# Altium footprint library Analog.PcbLib: 2 footprints
Each footprint in its own frame and in the unit in brackets; x right, y up, seen from the top. Pads: shape width x height; smd on the part's side, far side on the other; paste and mask are expansions set on the pad; w line width, h text height; cw(c..) or ccw(c..) is an arc to the next point about the centre after c.
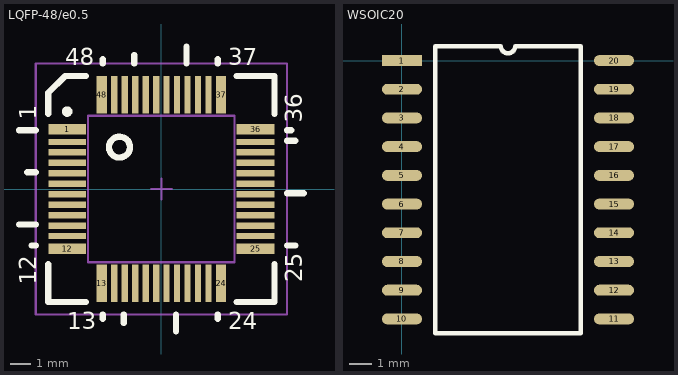
[diagram p0: the footprints below, top view; thin cyan lines are the x and y axes]

## LQFP-48/e0.5 [mm] "LQFP-48; JEDEC MS-026BBC; Body 7.00x7.00x1.60mm; Pitch 0.5mm;"
height 1.6
pads (48):
  rect 1.8x0.5 smd mask+0.1: 1(-4.5,2.85) 12(-4.5,-2.85) 25(4.5,-2.85) 36(4.5,2.85)
  rect 1.8x0.3 smd mask+0.1: 2(-4.5,2.25) 3(-4.5,1.75) 4(-4.5,1.25) 5(-4.5,0.75) 6(-4.5,0.25) 7(-4.5,-0.25) 8(-4.5,-0.75) 9(-4.5,-1.25) 10(-4.5,-1.75) 11(-4.5,-2.25) 26(4.5,-2.25) 27(4.5,-1.75) 28(4.5,-1.25) 29(4.5,-0.75) 30(4.5,-0.25) 31(4.5,0.25) 32(4.5,0.75) 33(4.5,1.25) 34(4.5,1.75) 35(4.5,2.25)
  rect 0.5x1.8 smd mask+0.1: 13(-2.85,-4.5) 24(2.85,-4.5) 37(2.85,4.5) 48(-2.85,4.5)
  rect 0.3x1.8 smd mask+0.1: 14(-2.25,-4.5) 15(-1.75,-4.5) 16(-1.25,-4.5) 17(-0.75,-4.5) 18(-0.25,-4.5) 19(0.25,-4.5) 20(0.75,-4.5) 21(1.25,-4.5) 22(1.75,-4.5) 23(2.25,-4.5) 38(2.25,4.5) 39(1.75,4.5) 40(1.25,4.5) 41(0.75,4.5) 42(0.25,4.5) 43(-0.25,4.5) 44(-0.75,4.5) 45(-1.25,4.5) 46(-1.75,4.5) 47(-2.25,4.5)
Top Overlay:
  circle w0.3: c-4.5,3.7 r0.1
  circle w0.3: c-2,2 r0.5
  lines w0.3: -6.8,-1.7 -6,-1.7 ; -6.8,2.8 -6,2.8 ; -6.4,0.8 -6,0.8 ; -6.2,-2.7 -6,-2.7 ; -5.4,-3.6 -5.4,-5.4 -3.6,-5.4 ; -5.4,3.6 -5.4,4.6 -4.6,5.4 -3.6,5.4 ; -2.8,-6.2 -2.8,-6 ; -2.8,6 -2.8,6.2 ; -1.8,-6.4 -1.8,-6 ; -1.3,6 -1.3,6.4 ; 0.7,-6.8 0.7,-6 ; 1.2,6 1.2,6.8 ; 2.7,-6.2 2.7,-6 ; 2.7,6 2.7,6.2 ; 3.6,-5.4 5.4,-5.4 5.4,-3.6 ; 3.6,5.4 5.4,5.4 5.4,3.6 ; 6,-2.7 6.4,-2.7 ; 6,-0.2 6.8,-0.2 ; 6,2.3 6.4,2.3 ; 6,2.8 6.2,2.8
  text "1" at -5.969,3.302 h0.8
  text "12" at -5.969,-4.572 h0.8
  text "13" at -4.5,-6.7 h0.8
  text "24" at 3.2,-6.7 h0.8
  text "25" at 6.731,-4.445 h0.8
  text "36" at 6.731,3.175 h0.8
  text "37" at 3.2,5.9 h0.8
  text "48" at -4.6,5.9 h0.8
Mechanical 13:
  circle w0.1: c-2,2 r0.5
  lines w0.1: -3.5,-3.5 3.5,-3.5 3.5,3.5 -3.5,3.5 -3.5,-3.5
Mechanical 15:
  lines w0.1: -0.5,0 0.5,0 ; 0,-0.5 0,0.5 ; -6,-6 -6,6 6,6 6,-6 -6,-6
3D body: height 1.6, standoff 0, extent -3.5,-3.5 3.5,3.5

## WSOIC20 [mil] "Wide SOIC 20"
height 103.94
pads (20):
  rect 70x19 smd: 1(0,0)
  oval 70x19 smd: 2(0,-50) 3(0,-100) 4(0,-150) 5(0,-200) 6(0,-250) 7(0,-300) 8(0,-350) 9(0,-400) 10(0,-450) 11(369.29,-450) 12(369.29,-400) 13(369.29,-350) 14(369.29,-300) 15(369.29,-250) 16(369.29,-200) 17(369.29,-150) 18(369.29,-100) 19(369.29,-50) 20(369.29,0)
Top Overlay:
  lines w7.87: 57.87,-475 57.87,25 172.15,25 ccw(c184.65,25) 197.15,25 311.42,25 311.42,-475 57.87,-475